# Altium footprint library Panasonic_AQY212GHA_0.PcbLib: 1 footprints
Each footprint in its own frame and in the unit in brackets; x right, y up, seen from the top. Pads: shape width x height; smd on the part's side, far side on the other; paste and mask are expansions set on the pad; w line width, h text height; cw(c..) or ccw(c..) is an arc to the next point about the centre after c.
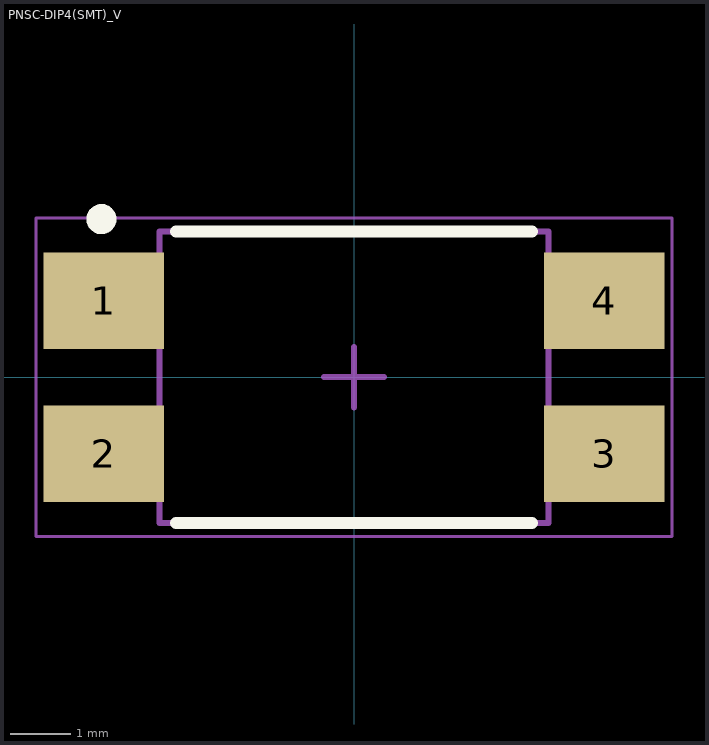
[diagram p0: the footprint, top view; thin cyan lines are the x and y axes]

## PNSC-DIP4(SMT)_V [mm] "DIP(SMT), 4-Leads, Body 6.4x4.78mm, Pitch 2.54mm"
height 3
pads (4):
  rect 2x1.6 smd: 1(-4.15,1.27) 2(-4.15,-1.27) 3(4.15,-1.27) 4(4.15,1.27)
Top Overlay:
  circle w0.25: c-4.189,2.62 r0.125
  lines w0.2: -2.948,-2.415 2.948,-2.415 ; -2.948,2.415 2.948,2.415
Mechanical 13:
  lines w0.1: -3.225,-2.415 -3.225,2.415 3.225,2.415 3.225,-2.415 -3.225,-2.415
Mechanical 15:
  lines w0.05: -5.275,-2.64 -5.275,2.64 5.275,2.64 5.275,-2.64 -5.275,-2.64
  lines w0.1: -0.5,0 0.5,0 ; 0,-0.5 0,0.5
3D body: height 3, standoff 0.2, extent -3.225,-2.415 3.225,2.415